# EAGLE library part MCP9808 (library pimoroni-ics)
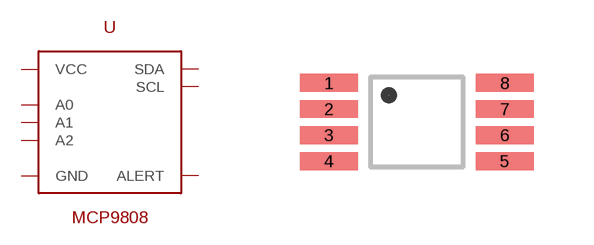
[diagram p175: symbol with the pads of MSOP-8; footprint MSOP-8]

Designator prefix U

## MCP9808MS  [MSOP-8]
1  SDA
2  SCL
3  ALERT
4  GND
5  A2
6  A1
7  A0
8  VCC

## Footprint MSOP-8 (pad centres in mm)
smd 1.45 x 0.45: 1 -2.2,0.95; 2 -2.2,0.3; 3 -2.2,-0.35; 4 -2.2,-1; 5 2.2,-1; 6 2.2,-0.35; 7 2.2,0.3; 8 2.2,0.95